# EAGLE library part HM-10 (library HM-10)
Bluetooth to Serial Port Module Check prices <https://pricing.snapeda.com/parts/HC-05/ITead%20Studio/view-part?ref=eda>
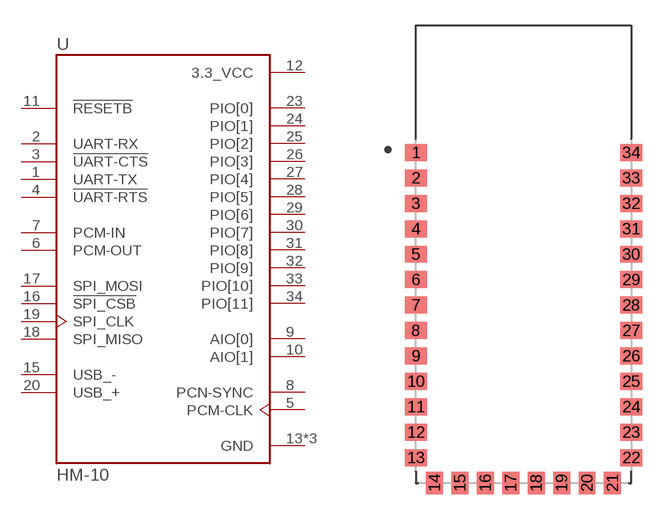
[diagram p0: symbol with the pads of HM-10; footprint HM-10]

Designator prefix U

## HM-10 (AVAILABILITY: No availability data; DESCRIPTION: Bluetooth to Serial Port Module; MF: ITead Studio; MP: HC-05; PACKAGE: Module ITead Studio; PRICE: None)  [HM-10]
1  UART-TX  out
2  UART-RX  in
3  !UART-CTS  in
4  !UART-RTS  out
5  PCM-CLK
6  PCM-OUT  out
7  PCM-IN  in
8  PCN-SYNC
9  AIO[0]
10  AIO[1]
11  !RESETB  in
12  3.3_VCC  pwr
13  GND  pwr
15  USB_-
16  !SPI_CSB  in
17  SPI_MOSI  in
18  SPI_MISO  out
19  SPI_CLK  in
20  USB_+
21  GND  pwr
22  GND  pwr
23  PIO[0]
24  PIO[1]
25  PIO[2]
26  PIO[3]
27  PIO[4]
28  PIO[5]
29  PIO[6]
30  PIO[7]
31  PIO[8]
32  PIO[9]
33  PIO[10]
34  PIO[11]

## Footprint HM-10 (pad centres in mm)
smd 1.3 x 1: 1 -6.35,6.325; 2 -6.35,4.825; 3 -6.35,3.325; 4 -6.35,1.825; 5 -6.35,0.325; 6 -6.35,-1.175; 7 -6.35,-2.675; 8 -6.35,-4.175; 9 -6.35,-5.675; 10 -6.35,-7.175; 11 -6.35,-8.675; 12 -6.35,-10.175; 13 -6.35,-11.675; 22 6.35,-11.675; 23 6.35,-10.175; 24 6.35,-8.675; 25 6.35,-7.175; 26 6.35,-5.675; 27 6.35,-4.175; 28 6.35,-2.675; 29 6.35,-1.175; 30 6.35,0.325; 31 6.35,1.825; 32 6.35,3.325; 33 6.35,4.825; 34 6.35,6.325
smd 1 x 1.3: 14 -5.25,-13.175; 15 -3.75,-13.175; 16 -2.25,-13.175; 17 -0.75,-13.175; 18 0.75,-13.175; 19 2.25,-13.175; 20 3.75,-13.175; 21 5.25,-13.175